# Altium footprint library DG136T-10.16-xxP-1Y.PcbLib: 7 footprints
Each footprint in its own frame and in the unit in brackets; x right, y up, seen from the top. Pads: shape width x height; smd on the part's side, far side on the other; paste and mask are expansions set on the pad; w line width, h text height; cw(c..) or ccw(c..) is an arc to the next point about the centre after c.
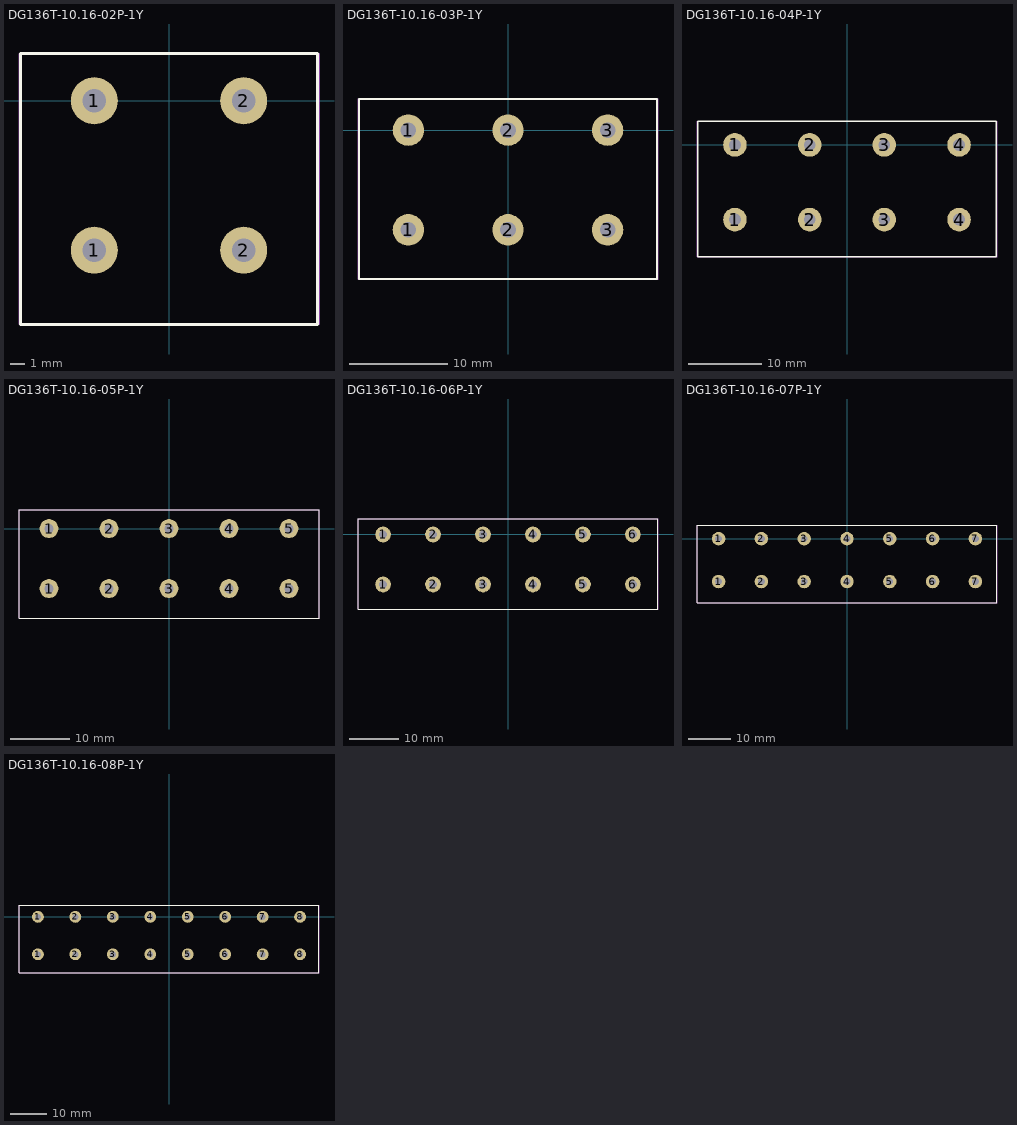
[diagram p0: the footprints below, top view; thin cyan lines are the x and y axes]

## DG136T-10.16-02P-1Y [mm]
pads (4):
  round 3.2 hole 1.6: 1(-5.08,-10.16) 1(-5.08,0) 2(5.08,-10.16) 2(5.08,0)
Top Overlay:
  lines w0.2: -10.1,-15.2 10.1,-15.2 10.1,3.2 -10.1,3.2 -10.1,-15.2
Border:
  lines w0.1: -10.2,-15.2 -10.2,3.2 10.2,3.2 10.2,-15.2 -10.2,-15.2
3D body "DG136T-10.16-02P-1Y.stp": height 29.3, standoff -5, extent -10.91,-15.2 10.16,3.2

## DG136T-10.16-03P-1Y [mm]
pads (6):
  round 3.2 hole 1.6: 1(-10.16,-10.16) 1(-10.16,0) 2(0,-10.16) 2(0,0) 3(10.16,-10.16) 3(10.16,0)
Top Overlay:
  lines w0.2: -15.2,-15.2 15.2,-15.2 15.2,3.2 -15.2,3.2 -15.2,-15.2
Border:
  lines w0.1: -15.3,-15.2 -15.3,3.2 15.3,3.2 15.3,-15.2 -15.3,-15.2
3D body "DG136T-10.16-03P-1Y.stp": height 29.3, standoff -5, extent -15.99,-15.2 15.24,3.2

## DG136T-10.16-04P-1Y [mm]
pads (8):
  round 3.2 hole 1.6: 1(-15.24,-10.16) 1(-15.24,0) 2(-5.08,-10.16) 2(-5.08,0) 3(5.08,-10.16) 3(5.08,0) 4(15.24,-10.16) 4(15.24,0)
Top Overlay:
  lines w0.2: -20.3,-15.2 20.3,-15.2 20.3,3.2 -20.3,3.2 -20.3,-15.2
Border:
  lines w0.1: -20.4,-15.2 -20.4,3.2 20.4,3.2 20.4,-15.2 -20.4,-15.2
3D body "DG136T-10.16-04P-1Y.stp": height 29.3, standoff -5, extent -21.07,-15.2 20.32,3.2

## DG136T-10.16-05P-1Y [mm]
pads (10):
  round 3.2 hole 1.6: 1(-20.32,-10.16) 1(-20.32,0) 2(-10.16,-10.16) 2(-10.16,0) 3(0,-10.16) 3(0,0) 4(10.16,-10.16) 4(10.16,0) 5(20.32,-10.16) 5(20.32,0)
Top Overlay:
  lines w0.2: -25.4,-15.2 -25.4,3.2 25.4,3.2 25.4,-15.2 -25.4,-15.2
Border:
  lines w0.1: -25.4,-15.2 25.4,-15.2 25.4,3.2 -25.4,3.2 -25.4,-15.2
3D body "DG136T-10.16-05P-1Y.stp": height 29.3, standoff -5, extent -26.15,-15.2 25.4,3.2

## DG136T-10.16-06P-1Y [mm]
pads (12):
  round 3.2 hole 1.6: 1(-25.4,-10.16) 1(-25.4,0) 2(-15.24,-10.16) 2(-15.24,0) 3(-5.08,-10.16) 3(-5.08,0) 4(5.08,-10.16) 4(5.08,0) 5(15.24,-10.16) 5(15.24,0) 6(25.4,-10.16) 6(25.4,0)
Top Overlay:
  lines w0.2: -30.4,-15.2 30.4,-15.2 30.4,3.2 -30.4,3.2 -30.4,-15.2
Border:
  lines w0.1: -30.5,-15.2 -30.5,3.2 30.5,3.2 30.5,-15.2 -30.5,-15.2
3D body "DG136T-10.16-06P-1Y.stp": height 29.3, standoff -5, extent -31.23,-15.2 30.48,3.2

## DG136T-10.16-07P-1Y [mm]
pads (14):
  round 3.2 hole 1.6: 1(-30.48,-10.16) 1(-30.48,0) 2(-20.32,-10.16) 2(-20.32,0) 3(-10.16,-10.16) 3(-10.16,0) 4(0,-10.16) 4(0,0) 5(10.16,-10.16) 5(10.16,0) 6(20.32,-10.16) 6(20.32,0) 7(30.48,-10.16) 7(30.48,0)
Top Overlay:
  lines w0.2: -35.5,-15.2 35.5,-15.2 35.5,3.2 -35.5,3.2 -35.5,-15.2
Border:
  lines w0.1: -35.6,-15.2 -35.6,3.2 35.6,3.2 35.6,-15.2 -35.6,-15.2
3D body "DG136T-10.16-07P-1Y.stp": height 29.3, standoff -5, extent -36.31,-15.2 35.56,3.2

## DG136T-10.16-08P-1Y [mm]
pads (16):
  round 3.2 hole 1.6: 1(-35.56,-10.16) 1(-35.56,0) 2(-25.4,-10.16) 2(-25.4,0) 3(-15.24,-10.16) 3(-15.24,0) 4(-5.08,-10.16) 4(-5.08,0) 5(5.08,-10.16) 5(5.08,0) 6(15.24,-10.16) 6(15.24,0) 7(25.4,-10.16) 7(25.4,0) 8(35.56,-10.16) 8(35.56,0)
Top Overlay:
  lines w0.2: -40.6,-15.2 40.6,-15.2 40.6,3.2 -40.6,3.2 -40.6,-15.2
Border:
  lines w0.1: -40.7,-15.2 -40.7,3.2 40.7,3.2 40.7,-15.2 -40.7,-15.2
3D body "DG136T-10.16-08P-1Y.stp": height 29.3, standoff -5, extent -41.39,-15.2 40.64,3.2